# EAGLE library part STM32F103-48 (library stm32)
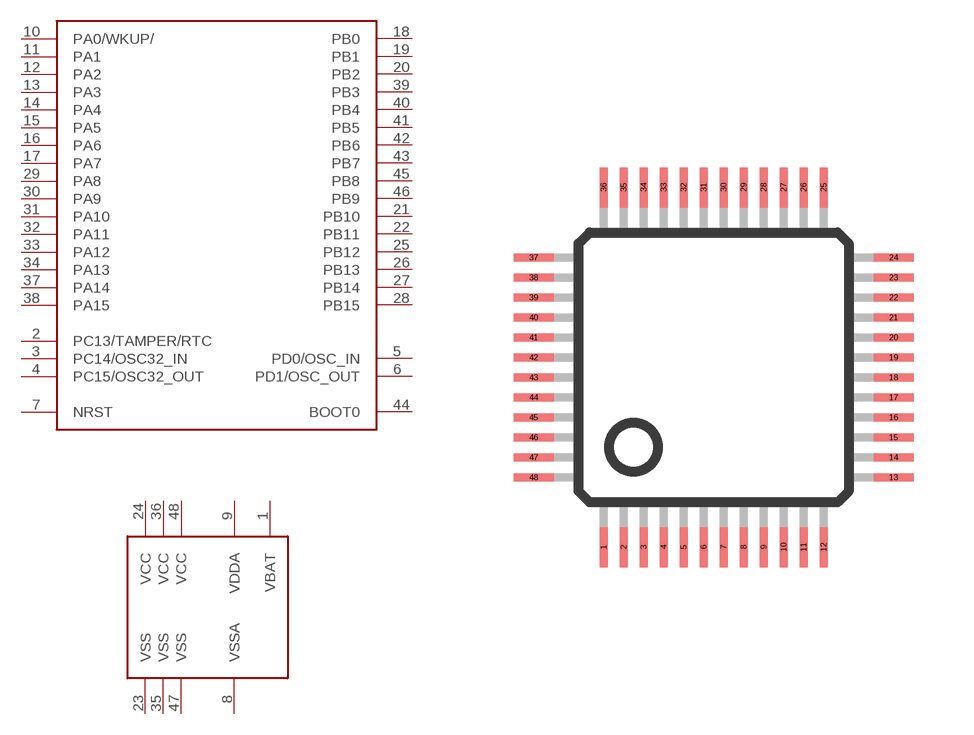
[diagram p4: symbol with the pads of TQFP48; footprint TQFP48]

Designator prefix IC; gates G$1=STM32F103X G$2=ALIM

## STM32F103-48-48  [TQFP48]
1  G$2:VBAT  sup
2  G$1:PC13/TAMPER/RTC
3  G$1:PC14/OSC32_IN
4  G$1:PC15/OSC32_OUT
5  G$1:PD0/OSC_IN
6  G$1:PD1/OSC_OUT
7  G$1:NRST
8  G$2:VSSA  sup
9  G$2:VDDA  sup
10  G$1:PA0/WKUP/
11  G$1:PA1
12  G$1:PA2
13  G$1:PA3
14  G$1:PA4
15  G$1:PA5
16  G$1:PA6
17  G$1:PA7
18  G$1:PB0
19  G$1:PB1
20  G$1:PB2
21  G$1:PB10
22  G$1:PB11
23  G$2:VSS  sup
24  G$2:VCC  sup
25  G$1:PB12
26  G$1:PB13
27  G$1:PB14
28  G$1:PB15
29  G$1:PA8
30  G$1:PA9
31  G$1:PA10
32  G$1:PA11
33  G$1:PA12
34  G$1:PA13
35  G$2:VSS  sup
36  G$2:VCC  sup
37  G$1:PA14
38  G$1:PA15
39  G$1:PB3
40  G$1:PB4
41  G$1:PB5
42  G$1:PB6
43  G$1:PB7
44  G$1:BOOT0
45  G$1:PB8
46  G$1:PB9
47  G$2:VSS  sup
48  G$2:VCC  sup

## Footprint TQFP48 (pad centres in mm)
smd 0.2 x 1: 1 -2.75,-4.5; 2 -2.25,-4.5; 3 -1.75,-4.5; 4 -1.25,-4.5; 5 -0.75,-4.5; 6 -0.25,-4.5; 7 0.25,-4.5; 8 0.75,-4.5; 9 1.25,-4.5; 10 1.75,-4.5; 11 2.25,-4.5; 12 2.75,-4.5; 25 2.75,4.5; 26 2.25,4.5; 27 1.75,4.5; 28 1.25,4.5; 29 0.75,4.5; 30 0.25,4.5; 31 -0.25,4.5; 32 -0.75,4.5; 33 -1.25,4.5; 34 -1.75,4.5; 35 -2.25,4.5; 36 -2.75,4.5
smd 1 x 0.2: 13 4.5,-2.75; 14 4.5,-2.25; 15 4.5,-1.75; 16 4.5,-1.25; 17 4.5,-0.75; 18 4.5,-0.25; 19 4.5,0.25; 20 4.5,0.75; 21 4.5,1.25; 22 4.5,1.75; 23 4.5,2.25; 24 4.5,2.75; 37 -4.5,2.75; 38 -4.5,2.25; 39 -4.5,1.75; 40 -4.5,1.25; 41 -4.5,0.75; 42 -4.5,0.25; 43 -4.5,-0.25; 44 -4.5,-0.75; 45 -4.5,-1.25; 46 -4.5,-1.75; 47 -4.5,-2.25; 48 -4.5,-2.75